# EAGLE library part CTB9550-8 (library mycomponents)
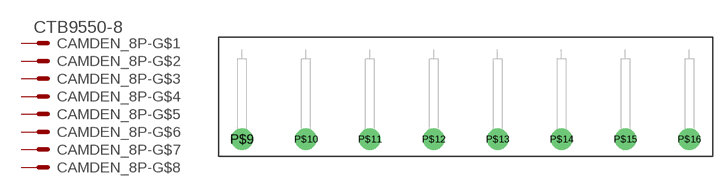
[diagram p0: symbol with the pads of CTB9550-8; footprint CTB9550-8]

Designator prefix CAMDEN_8P-; gates G$1=MV G$2=M G$3=M G$4=M G$5=M G$6=M G$7=M G$8=M

## CTB9550-8  [CTB9550-8]
P$9  G$1:S  pas
P$10  G$2:S  pas
P$11  G$3:S  pas
P$12  G$4:S  pas
P$13  G$5:S  pas
P$14  G$6:S  pas
P$15  G$7:S  pas
P$16  G$8:S  pas

## Footprint CTB9550-8 (pad centres in mm)
drill 1.1 pad 2.54 round: P$9 0,0; P$10 7.5,0; P$11 15,0; P$12 22.5,0; P$13 30,0; P$14 37.5,0; P$15 45,0; P$16 52.5,0